# Altium schematic symbol library hi3516dv100.SchLib: 70 symbols
Pins are listed as number, name and electrical type; pins without a type are passive.

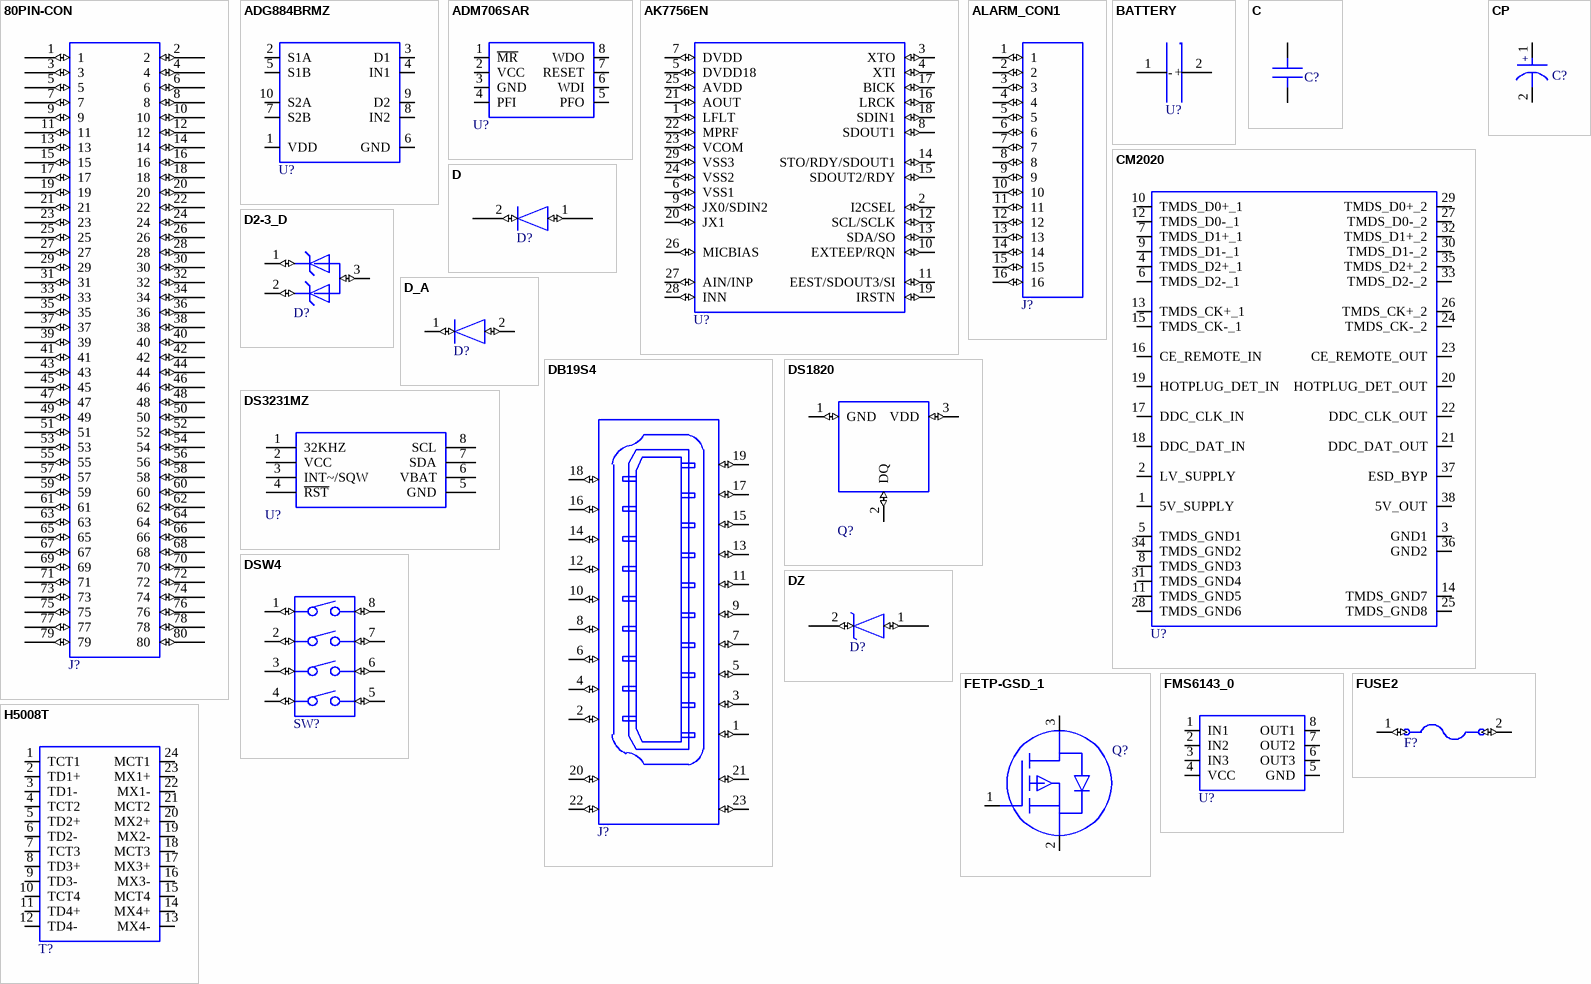
[diagram p0: symbols 80PIN-CON to H5008T]

## 80PIN-CON
designator J?  (value not drawn)
PARTS: 1; OriginalSymbolOrigin: (30,420); LEVEL: STD; DEVICE: 80PIN-CON
pins: 1 (io), 2 (io), 3 (io), 4 (io), 5 (io), 6 (io), 7 (io), 8 (io), 9 (io), 10 (io), 11 (io), 12 (io), 13 (io), 14 (io), 15 (io), 16 (io), 17 (io), 18 (io), 19 (io), 20 (io), 21 (io), 22 (io), 23 (io), 24 (io), 25 (io), 26 (io), 27 (io), 28 (io), 29 (io), 30 (io), 31 (io), 32 (io), 33 (io), 34 (io), 35 (io), 36 (io), 37 (io), 38 (io), 39 (io), 40 (io), 41 (io), 42 (io), 43 (io), 44 (io), 45 (io), 46 (io), 47 (io), 48 (io), 49 (io), 50 (io), 51 (io), 52 (io), 53 (io), 54 (io), 55 (io), 56 (io), 57 (io), 58 (io), 59 (io), 60 (io), 61 (io), 62 (io), 63 (io), 64 (io), 65 (io), 66 (io), 67 (io), 68 (io), 69 (io), 70 (io), 71 (io), 72 (io), 73 (io), 74 (io), 75 (io), 76 (io), 77 (io), 78 (io), 79 (io), 80 (io)

## ADG884BRMZ
designator U?  (value not drawn)
PARTS: 1; OriginalSymbolOrigin: (20,90); LEVEL: STD; DEVICE: ADG884BRMZ
pins: 1 VDD, 2 S1A, 3 D1, 4 IN1, 5 S1B, 6 GND, 7 S2B, 8 IN2, 9 D2, 10 S2A

## ADM706SAR
designator U?  (value not drawn)
PARTS: 1; OriginalSymbolOrigin: (10,50); LEVEL: STD; DEVICE: ADM706SAR
pins: 1 ~{MR}, 2 VCC, 3 GND, 4 PFI, 5 PFO, 6 WDI, 7 RESET, 8 WDO

## AK7756EN
designator U?  (value not drawn)
PARTS: 1; OriginalSymbolOrigin: (20,190); LEVEL: STD; DEVICE: AK7756EN
pins: 1 LFLT (io), 2 I2CSEL (io), 3 XTO (io), 4 XTI (io), 5 DVDD18 (io), 6 VSS1 (io), 7 DVDD (io), 8 SDOUT1 (io), 9 JX0/SDIN2 (io), 10 EXTEEP/RQN (io), 11 EEST/SDOUT3/SI (io), 12 SCL/SCLK (io), 13 SDA/SO (io), 14 STO/RDY/SDOUT1 (io), 15 SDOUT2/RDY (io), 16 LRCK (io), 17 BICK (io), 18 SDIN1 (io), 19 IRSTN (io), 20 JX1 (io), 21 AOUT (io), 22 MPRF (io), 23 VCOM (io), 24 VSS2 (io), 25 AVDD (io), 26 MICBIAS (io), 27 AIN/INP (io), 28 INN (io), 29 VSS3 (io)

## ALARM_CON1
designator J?  (value not drawn)
PARTS: 1; OriginalSymbolOrigin: (20,180); LEVEL: STD; DEVICE: CON; PKG_TYPE: HD16-2_54MM-S
pins: 1 (io), 2 (io), 3 (io), 4 (io), 5 (io), 6 (io), 7 (io), 8 (io), 9 (io), 10 (io), 11 (io), 12 (io), 13 (io), 14 (io), 15 (io), 16 (io)

## BATTERY
designator U?  (value not drawn)
PARTS: 1; OriginalSymbolOrigin: (20,40); PKG_TYPE: BATTERY-R; LEVEL: STD; DEVICE: BATTERY
pins: 1 +, 2 -

## C
designator C?, comment 1U  (value not drawn)
PARTS: 1; OriginalSymbolOrigin: (0,30); DEVICE: CP; PKG_TYPE: CAP2-100-250; LEVEL: STD; PINSWAP: (A,B)
pins: 1 A, 2 B

## CM2020
designator U?  (value not drawn)
PARTS: 1; OriginalSymbolOrigin: (20,300); LEVEL: STD; DEVICE: CM2020
pins: 1 5V_SUPPLY, 2 LV_SUPPLY, 3 GND1, 4 TMDS_D2+_1, 5 TMDS_GND1, 6 TMDS_D2-_1, 7 TMDS_D1+_1, 8 TMDS_GND3, 9 TMDS_D1-_1, 10 TMDS_D0+_1, 11 TMDS_GND5, 12 TMDS_D0-_1, 13 TMDS_CK+_1, 14 TMDS_GND7, 15 TMDS_CK-_1, 16 CE_REMOTE_IN, 17 DDC_CLK_IN, 18 DDC_DAT_IN, 19 HOTPLUG_DET_IN, 20 HOTPLUG_DET_OUT, 21 DDC_DAT_OUT, 22 DDC_CLK_OUT, 23 CE_REMOTE_OUT, 24 TMDS_CK-_2, 25 TMDS_GND8, 26 TMDS_CK+_2, 27 TMDS_D0-_2, 28 TMDS_GND6, 29 TMDS_D0+_2, 30 TMDS_D1-_2, 31 TMDS_GND4, 32 TMDS_D1+_2, 33 TMDS_D2-_2, 34 TMDS_GND2, 35 TMDS_D2+_2, 36 GND2, 37 ESD_BYP, 38 5V_OUT

## CP
designator C?, comment 1U  (value not drawn)
PARTS: 1; OriginalSymbolOrigin: (0,30); DEVICE: CP; PKG_TYPE: CAP2-100-250; LEVEL: STD
pins: 1, 2
text: +

## D
designator D?  (value not drawn)
PARTS: 1; OriginalSymbolOrigin: (30,20); PKG_TYPE: 2; LEVEL: STD; DEVICE: D
pins: 1 A (io), 2 B (io)

## D2-3_D
designator D?  (value not drawn)
PARTS: 1; OriginalSymbolOrigin: (20,40); CODE: 136011; PKG_TYPE: 3; LEVEL: STD; DEVICE: MMBZ5V6ALT1-D
pins: 1 C1 (io), 2 C2 (io), 3 A (io)

## D_A
designator D?  (value not drawn)
PARTS: 1; OriginalSymbolOrigin: (20,20); LEVEL: STD; DEVICE: 1PS79SB31; CODE: ?; PKG_TYPE: ?
pins: 1 K (io), 2 A (io)

## DB19S4
designator J?  (value not drawn)
PARTS: 1; OriginalSymbolOrigin: (20,280); CODE: 168084; PKG_TYPE: 23; LEVEL: STD; DEVICE: 1734011-1
pins: 1 P1 (io), 2 P2 (io), 3 P3 (io), 4 P4 (io), 5 P5 (io), 6 P6 (io), 7 P7 (io), 8 P8 (io), 9 P9 (io), 10 P10 (io), 11 P11 (io), 12 P12 (io), 13 P13 (io), 14 P14 (io), 15 P15 (io), 16 P16 (io), 17 P17 (io), 18 P18 (io), 19 P19 (io), 20 S20 (io), 21 S21 (io), 22 S22 (io), 23 S23 (io)

## DS1820
designator Q?  (value not drawn)
PARTS: 1; OriginalSymbolOrigin: (20,80); CODE: 33010116; PKG_TYPE: TO-TR; LEVEL: STD; DEVICE: DS1820
pins: 1 GND (io), 2 DQ (io), 3 VDD (io)

## DS3231MZ
designator U?  (value not drawn)
PARTS: 1; OriginalSymbolOrigin: (10,60); LEVEL: STD; DEVICE: DS3231MZ
pins: 1 32KHZ, 2 VCC, 3 INT~/SQW, 4 ~{RST}, 5 GND, 6 VBAT, 7 SDA, 8 SCL

## DSW4
designator SW?  (value not drawn)
PARTS: 1; OriginalSymbolOrigin: (20,100); CODE: 16070017; PKG_TYPE: SDSW8-L; LEVEL: STD; DEVICE: GSW3
pins: 1 (io), 2 (io), 3 (io), 4 (io), 5 (io), 6 (io), 7 (io), 8 (io)

## DZ
designator D?  (value not drawn)
PARTS: 1; OriginalSymbolOrigin: (30,20); PKG_TYPE: 2; LEVEL: STD; DEVICE: DZ
pins: 1 A (io), 2 B (io)

## FETP-GSD_1
designator Q?, comment PMOS-GSD  (value not drawn)
PARTS: 1; OriginalSymbolOrigin: (10,80); LEVEL: STD; PKG_TYPE: SOT23; DEVICE: REF
pins: 1 G, 2 S, 3 D

## FMS6143_0
designator U?, comment FMS6143  (value not drawn)
PARTS: 1; OriginalSymbolOrigin: (20,60); CODE: 229563; PKG_TYPE: 8; LEVEL: STD; DEVICE: FMS6143
pins: 1 IN1, 2 IN2, 3 IN3, 4 VCC, 5 GND, 6 OUT3, 7 OUT2, 8 OUT1

## FUSE2
designator F?  (value not drawn)
PARTS: 1; OriginalSymbolOrigin: (20,20); LEVEL: STD; DEVICE: FUSE; CODE: ?; PKG_TYPE: ?
pins: 1 P1 (io), 2 P2 (io)

## H5008T
designator T?  (value not drawn)
PARTS: 1; OriginalSymbolOrigin: (20,130); CODE: 9050140; PKG_TYPE: STFM24-50-480; LEVEL: STD; DEVICE: H5008T
pins: 1 TCT1, 2 TD1+, 3 TD1-, 4 TCT2, 5 TD2+, 6 TD2-, 7 TCT3, 8 TD3+, 9 TD3-, 10 TCT4, 11 TD4+, 12 TD4-, 13 MX4-, 14 MX4+, 15 MCT4, 16 MX3-, 17 MX3+, 18 MCT3, 19 MX2-, 20 MX2+, 21 MCT2, 22 MX1-, 23 MX1+, 24 MCT1

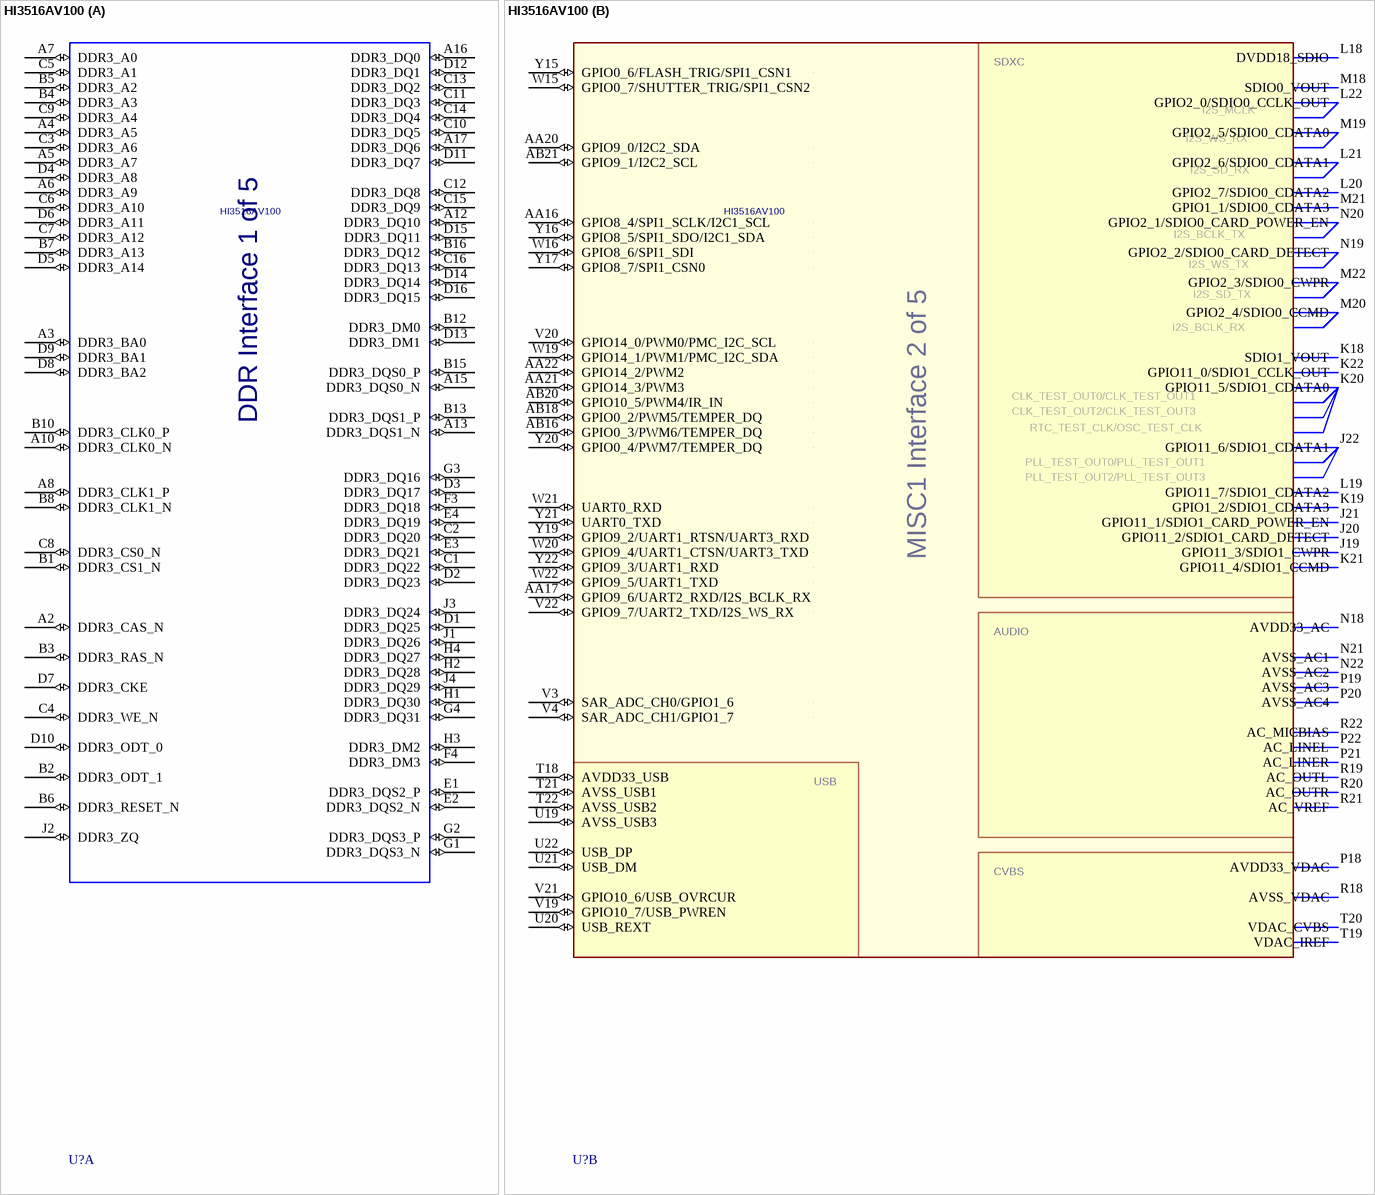
[diagram p1: symbol HI3516AV100]

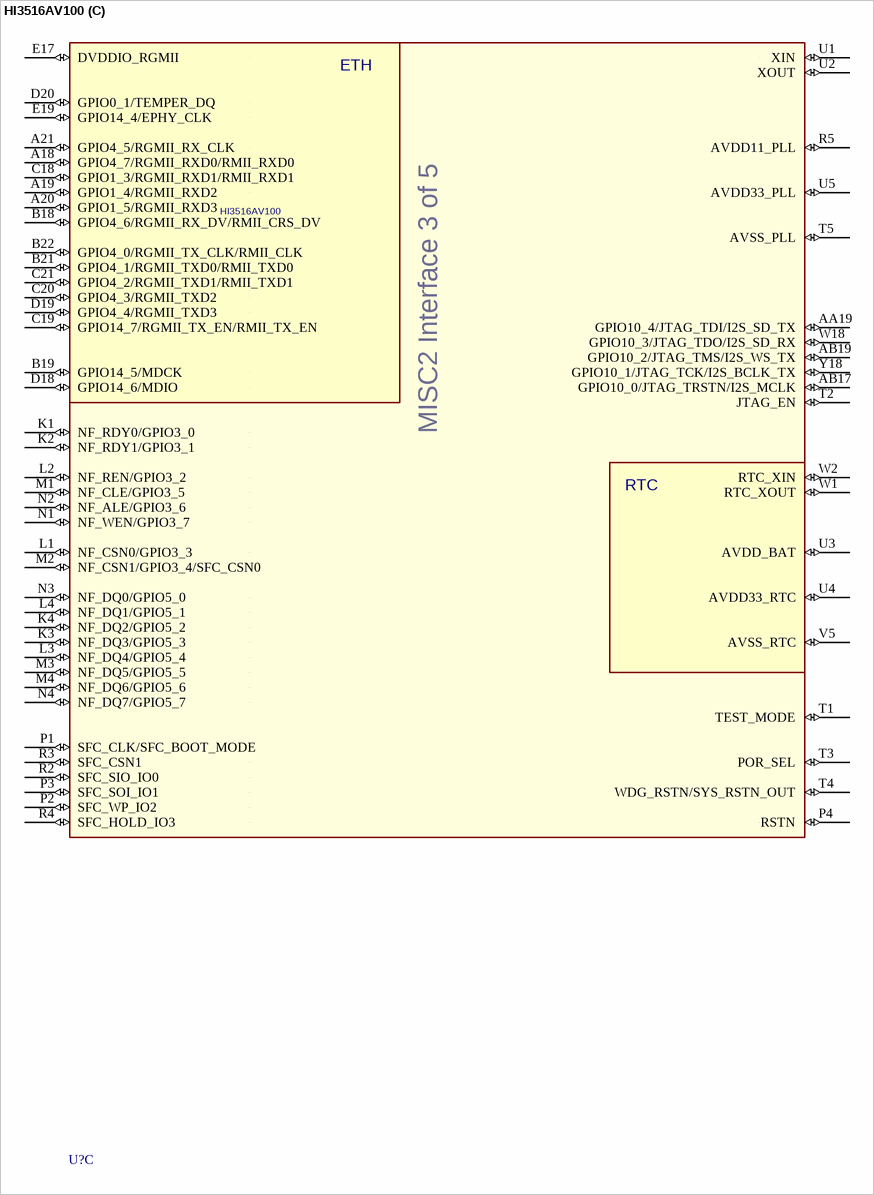
[diagram p2: symbol HI3516AV100]

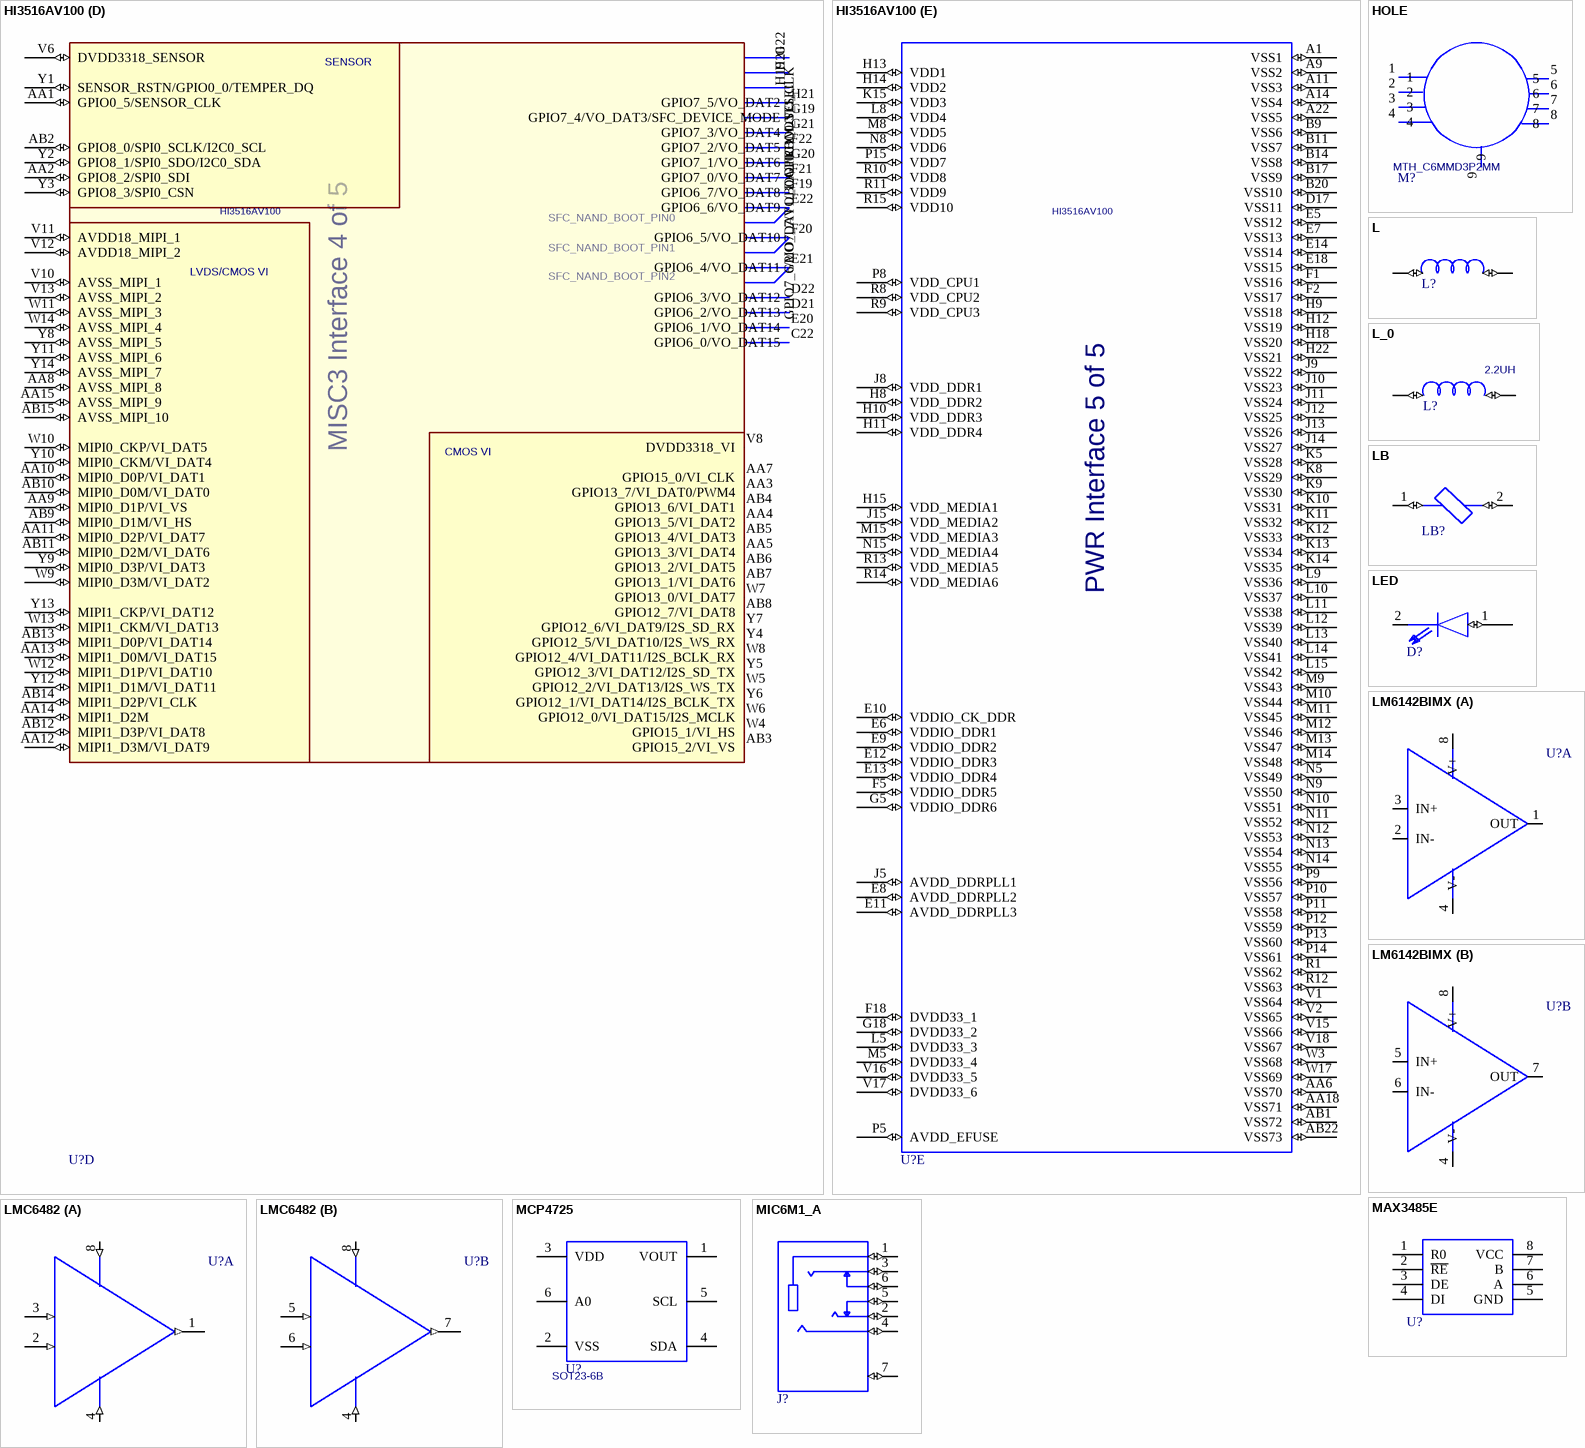
[diagram p3: symbols HI3516AV100 to MIC6M1_A]

## HI3516AV100
designator U?
FORWARD_PCB: 1; HETERO: (HI3516AV100_DDR),(HI3516AV100_M1),(HI3516AV100_M2),(HI3516AV100_M3),(HI3516AV100_PWR); PKG_TYPE: BGA_HI3516A; LEVEL: STD; OriginalSymbolOrigin: (30,750); PARTS: 1; DEVICE: HI3516AV100
footprint BGA395-26-2222
part A pins: A2 DDR3_CAS_N (io), A3 DDR3_BA0 (io), A4 DDR3_A5 (io), A5 DDR3_A7 (io), A6 DDR3_A9 (io), A7 DDR3_A0 (io), A8 DDR3_CLK1_P (io), A10 DDR3_CLK0_N (io), A12 DDR3_DQ10 (io), A13 DDR3_DQS1_N (io), A15 DDR3_DQS0_N (io), A16 DDR3_DQ0 (io), A17 DDR3_DQ6 (io), B1 DDR3_CS1_N (io), B2 DDR3_ODT_1 (io), B3 DDR3_RAS_N (io), B4 DDR3_A3 (io), B5 DDR3_A2 (io), B6 DDR3_RESET_N (io), B7 DDR3_A13 (io), B8 DDR3_CLK1_N (io), B10 DDR3_CLK0_P (io), B12 DDR3_DM0 (io), B13 DDR3_DQS1_P (io), B15 DDR3_DQS0_P (io), B16 DDR3_DQ12 (io), C1 DDR3_DQ22 (io), C2 DDR3_DQ20 (io), C3 DDR3_A6 (io), C4 DDR3_WE_N (io), C5 DDR3_A1 (io), C6 DDR3_A10 (io), C7 DDR3_A12 (io), C8 DDR3_CS0_N (io), C9 DDR3_A4 (io), C10 DDR3_DQ5 (io), C11 DDR3_DQ3 (io), C12 DDR3_DQ8 (io), C13 DDR3_DQ2 (io), C14 DDR3_DQ4 (io), C15 DDR3_DQ9 (io), C16 DDR3_DQ13 (io), D1 DDR3_DQ25 (io), D2 DDR3_DQ23 (io), D3 DDR3_DQ17 (io), D4 DDR3_A8 (io), D5 DDR3_A14 (io), D6 DDR3_A11 (io), D7 DDR3_CKE (io), D8 DDR3_BA2 (io), D9 DDR3_BA1 (io), D10 DDR3_ODT_0 (io), D11 DDR3_DQ7 (io), D12 DDR3_DQ1 (io), D13 DDR3_DM1 (io), D14 DDR3_DQ14 (io), D15 DDR3_DQ11 (io), D16 DDR3_DQ15 (io), E1 DDR3_DQS2_P (io), E2 DDR3_DQS2_N (io), E3 DDR3_DQ21 (io), E4 DDR3_DQ19 (io), F3 DDR3_DQ18 (io), F4 DDR3_DM3 (io), G1 DDR3_DQS3_N (io), G2 DDR3_DQS3_P (io), G3 DDR3_DQ16 (io), G4 DDR3_DQ31 (io), H1 DDR3_DQ30 (io), H2 DDR3_DQ28 (io), H3 DDR3_DM2 (io), H4 DDR3_DQ27 (io), J1 DDR3_DQ26 (io), J2 DDR3_ZQ (io), J3 DDR3_DQ24 (io), J4 DDR3_DQ29 (io)
part B pins: AA16 GPIO8_4/SPI1_SCLK/I2C1_SCL (io), AA17 GPIO9_6/UART2_RXD/I2S_BCLK_RX (io), AA20 GPIO9_0/I2C2_SDA (io), AA21 GPIO14_3/PWM3 (io), AA22 GPIO14_2/PWM2 (io), AB16 GPIO0_3/PWM6/TEMPER_DQ (io), AB18 GPIO0_2/PWM5/TEMPER_DQ (io), AB20 GPIO10_5/PWM4/IR_IN (io), AB21 GPIO9_1/I2C2_SCL (io), J19 GPIO11_3/SDIO1_CWPR (io), J20 GPIO11_2/SDIO1_CARD_DETECT (io), J21 GPIO11_1/SDIO1_CARD_POWER_EN (io), J22 GPIO11_6/SDIO1_CDATA1 (io), K18 SDIO1_VOUT (io), K19 GPIO1_2/SDIO1_CDATA3 (io), K20 GPIO11_5/SDIO1_CDATA0 (io), K21 GPIO11_4/SDIO1_CCMD (io), K22 GPIO11_0/SDIO1_CCLK_OUT (io), L18 DVDD18_SDIO (io), L19 GPIO11_7/SDIO1_CDATA2 (io), L20 GPIO2_7/SDIO0_CDATA2 (io), L21 GPIO2_6/SDIO0_CDATA1 (io), L22 GPIO2_0/SDIO0_CCLK_OUT (io), M18 SDIO0_VOUT (io), M19 GPIO2_5/SDIO0_CDATA0 (io), M20 GPIO2_4/SDIO0_CCMD (io), M21 GPIO1_1/SDIO0_CDATA3 (io), M22 GPIO2_3/SDIO0_CWPR (io), N18 AVDD33_AC (io), N19 GPIO2_2/SDIO0_CARD_DETECT (io), N20 GPIO2_1/SDIO0_CARD_POWER_EN (io), N21 AVSS_AC1 (io), N22 AVSS_AC2 (io), P18 AVDD33_VDAC (io), P19 AVSS_AC3 (io), P20 AVSS_AC4 (io), P21 AC_LINER (io), P22 AC_LINEL (io), R18 AVSS_VDAC (io), R19 AC_OUTL (io), R20 AC_OUTR (io), R21 AC_VREF (io), R22 AC_MICBIAS (io), T18 AVDD33_USB (io), T19 VDAC_IREF (io), T20 VDAC_CVBS (io), T21 AVSS_USB1 (io), T22 AVSS_USB2 (io), U19 AVSS_USB3 (io), U20 USB_REXT (io), U21 USB_DM (io), U22 USB_DP (io), V3 SAR_ADC_CH0/GPIO1_6 (io), V4 SAR_ADC_CH1/GPIO1_7 (io), V19 GPIO10_7/USB_PWREN (io), V20 GPIO14_0/PWM0/PMC_I2C_SCL (io), V21 GPIO10_6/USB_OVRCUR (io), V22 GPIO9_7/UART2_TXD/I2S_WS_RX (io), W15 GPIO0_7/SHUTTER_TRIG/SPI1_CSN2 (io), W16 GPIO8_6/SPI1_SDI (io), W19 GPIO14_1/PWM1/PMC_I2C_SDA (io), W20 GPIO9_4/UART1_CTSN/UART3_TXD (io), W21 UART0_RXD (io), W22 GPIO9_5/UART1_TXD (io), Y15 GPIO0_6/FLASH_TRIG/SPI1_CSN1 (io), Y16 GPIO8_5/SPI1_SDO/I2C1_SDA (io), Y17 GPIO8_7/SPI1_CSN0 (io), Y19 GPIO9_2/UART1_RTSN/UART3_RXD (io), Y20 GPIO0_4/PWM7/TEMPER_DQ (io), Y21 UART0_TXD (io), Y22 GPIO9_3/UART1_RXD (io)
part C pins: A18 GPIO4_7/RGMII_RXD0/RMII_RXD0 (io), A19 GPIO1_4/RGMII_RXD2 (io), A20 GPIO1_5/RGMII_RXD3 (io), A21 GPIO4_5/RGMII_RX_CLK (io), AA19 GPIO10_4/JTAG_TDI/I2S_SD_TX (io), AB17 GPIO10_0/JTAG_TRSTN/I2S_MCLK (io), AB19 GPIO10_2/JTAG_TMS/I2S_WS_TX (io), B18 GPIO4_6/RGMII_RX_DV/RMII_CRS_DV (io), B19 GPIO14_5/MDCK (io), B21 GPIO4_1/RGMII_TXD0/RMII_TXD0 (io), B22 GPIO4_0/RGMII_TX_CLK/RMII_CLK (io), C18 GPIO1_3/RGMII_RXD1/RMII_RXD1 (io), C19 GPIO14_7/RGMII_TX_EN/RMII_TX_EN (io), C20 GPIO4_3/RGMII_TXD2 (io), C21 GPIO4_2/RGMII_TXD1/RMII_TXD1 (io), D18 GPIO14_6/MDIO (io), D19 GPIO4_4/RGMII_TXD3 (io), D20 GPIO0_1/TEMPER_DQ (io), E17 DVDDIO_RGMII (io), E19 GPIO14_4/EPHY_CLK (io), K1 NF_RDY0/GPIO3_0 (io), K2 NF_RDY1/GPIO3_1 (io), K3 NF_DQ3/GPIO5_3 (io), K4 NF_DQ2/GPIO5_2 (io), L1 NF_CSN0/GPIO3_3 (io), L2 NF_REN/GPIO3_2 (io), L3 NF_DQ4/GPIO5_4 (io), L4 NF_DQ1/GPIO5_1 (io), M1 NF_CLE/GPIO3_5 (io), M2 NF_CSN1/GPIO3_4/SFC_CSN0 (io), M3 NF_DQ5/GPIO5_5 (io), M4 NF_DQ6/GPIO5_6 (io), N1 NF_WEN/GPIO3_7 (io), N2 NF_ALE/GPIO3_6 (io), N3 NF_DQ0/GPIO5_0 (io), N4 NF_DQ7/GPIO5_7 (io), P1 SFC_CLK/SFC_BOOT_MODE (io), P2 SFC_WP_IO2 (io), P3 SFC_SOI_IO1 (io), P4 RSTN (io), R2 SFC_SIO_IO0 (io), R3 SFC_CSN1 (io), R4 SFC_HOLD_IO3 (io), R5 AVDD11_PLL (io), T1 TEST_MODE (io), T2 JTAG_EN (io), T3 POR_SEL (io), T4 WDG_RSTN/SYS_RSTN_OUT (io), T5 AVSS_PLL (io), U1 XIN (io), U2 XOUT (io), U3 AVDD_BAT (io), U4 AVDD33_RTC (io), U5 AVDD33_PLL (io), V5 AVSS_RTC (io), W1 RTC_XOUT (io), W2 RTC_XIN (io), W18 GPIO10_3/JTAG_TDO/I2S_SD_RX (io), Y18 GPIO10_1/JTAG_TCK/I2S_BCLK_TX (io)
part D pins: AA1 GPIO0_5/SENSOR_CLK (io), AA2 GPIO8_2/SPI0_SDI (io), AA3 GPIO13_7/VI_DAT0/PWM4 (io), AA4 GPIO13_5/VI_DAT2 (io), AA5 GPIO13_3/VI_DAT4 (io), AA7 GPIO15_0/VI_CLK (io), AA8 AVSS_MIPI_8 (io), AA9 MIPI0_D1P/VI_VS (io), AA10 MIPI0_D0P/VI_DAT1 (io), AA11 MIPI0_D2P/VI_DAT7 (io), AA12 MIPI1_D3M/VI_DAT9 (io), AA13 MIPI1_D0M/VI_DAT15 (io), AA14 MIPI1_D2M (io), AA15 AVSS_MIPI_9 (io), AB2 GPIO8_0/SPI0_SCLK/I2C0_SCL (io), AB3 GPIO15_2/VI_VS (io), AB4 GPIO13_6/VI_DAT1 (io), AB5 GPIO13_4/VI_DAT3 (io), AB6 GPIO13_2/VI_DAT5 (io), AB7 GPIO13_1/VI_DAT6 (io), AB8 GPIO12_7/VI_DAT8 (io), AB9 MIPI0_D1M/VI_HS (io), AB10 MIPI0_D0M/VI_DAT0 (io), AB11 MIPI0_D2M/VI_DAT6 (io), AB12 MIPI1_D3P/VI_DAT8 (io), AB13 MIPI1_D0P/VI_DAT14 (io), AB14 MIPI1_D2P/VI_CLK (io), AB15 AVSS_MIPI_10 (io), C22 GPIO6_0/VO_DAT15 (io), D21 GPIO6_2/VO_DAT13 (io), D22 GPIO6_3/VO_DAT12 (io), E20 GPIO6_1/VO_DAT14 (io), E21 GPIO6_4/VO_DAT11 (io), E22 GPIO6_6/VO_DAT9 (io), F19 GPIO6_7/VO_DAT8 (io), F20 GPIO6_5/VO_DAT10 (io), F21 GPIO7_0/VO_DAT7 (io), F22 GPIO7_2/VO_DAT5 (io), G19 GPIO7_4/VO_DAT3/SFC_DEVICE_MODE (io), G20 GPIO7_1/VO_DAT6 (io), G21 GPIO7_3/VO_DAT4 (io), G22 GPIO1_0/VO_CLK (io), H19 GPIO7_6/VO_DAT1/BOOTROM_SEL (io), H20 GPIO7_7/VO_DAT0/BOOT_SEL (io), H21 GPIO7_5/VO_DAT2 (io), V6 DVDD3318_SENSOR (io), V8 DVDD3318_VI (io), V10 AVSS_MIPI_1 (io), V11 AVDD18_MIPI_1 (io), V12 AVDD18_MIPI_2 (io), V13 AVSS_MIPI_2 (io), W4 GPIO15_1/VI_HS (io), W5 GPIO12_2/VI_DAT13/I2S_WS_TX (io), W6 GPIO12_0/VI_DAT15/I2S_MCLK (io), W7 GPIO13_0/VI_DAT7 (io), W8 GPIO12_4/VI_DAT11/I2S_BCLK_RX (io), W9 MIPI0_D3M/VI_DAT2 (io), W10 MIPI0_CKP/VI_DAT5 (io), W11 AVSS_MIPI_3 (io), W12 MIPI1_D1P/VI_DAT10 (io), W13 MIPI1_CKM/VI_DAT13 (io), W14 AVSS_MIPI_4 (io), Y1 SENSOR_RSTN/GPIO0_0/TEMPER_DQ (io), Y2 GPIO8_1/SPI0_SDO/I2C0_SDA (io), Y3 GPIO8_3/SPI0_CSN (io), Y4 GPIO12_5/VI_DAT10/I2S_WS_RX (io), Y5 GPIO12_3/VI_DAT12/I2S_SD_TX (io), Y6 GPIO12_1/VI_DAT14/I2S_BCLK_TX (io), Y7 GPIO12_6/VI_DAT9/I2S_SD_RX (io), Y8 AVSS_MIPI_5 (io), Y9 MIPI0_D3P/VI_DAT3 (io), Y10 MIPI0_CKM/VI_DAT4 (io), Y11 AVSS_MIPI_6 (io), Y12 MIPI1_D1M/VI_DAT11 (io), Y13 MIPI1_CKP/VI_DAT12 (io), Y14 AVSS_MIPI_7 (io)
part E pins: A1 VSS1 (io), A9 VSS2 (io), A11 VSS3 (io), A14 VSS4 (io), A22 VSS5 (io), AA6 VSS70 (io), AA18 VSS71 (io), AB1 VSS72 (io), AB22 VSS73 (io), B9 VSS6 (io), B11 VSS7 (io), B14 VSS8 (io), B17 VSS9 (io), B20 VSS10 (io), D17 VSS11 (io), E5 VSS12 (io), E6 VDDIO_DDR1 (io), E7 VSS13 (io), E8 AVDD_DDRPLL2 (io), E9 VDDIO_DDR2 (io), E10 VDDIO_CK_DDR (io), E11 AVDD_DDRPLL3 (io), E12 VDDIO_DDR3 (io), E13 VDDIO_DDR4 (io), E14 VSS14 (io), E18 VSS15 (io), F1 VSS16 (io), F2 VSS17 (io), F5 VDDIO_DDR5 (io), F18 DVDD33_1 (io), G5 VDDIO_DDR6 (io), G18 DVDD33_2 (io), H8 VDD_DDR2 (io), H9 VSS18 (io), H10 VDD_DDR3 (io), H11 VDD_DDR4 (io), H12 VSS19 (io), H13 VDD1 (io), H14 VDD2 (io), H15 VDD_MEDIA1 (io), H18 VSS20 (io), H22 VSS21 (io), J5 AVDD_DDRPLL1 (io), J8 VDD_DDR1 (io), J9 VSS22 (io), J10 VSS23 (io), J11 VSS24 (io), J12 VSS25 (io), J13 VSS26 (io), J14 VSS27 (io), J15 VDD_MEDIA2 (io), K5 VSS28 (io), K8 VSS29 (io), K9 VSS30 (io), K10 VSS31 (io), K11 VSS32 (io), K12 VSS33 (io), K13 VSS34 (io), K14 VSS35 (io), K15 VDD3 (io), L5 DVDD33_3 (io), L8 VDD4 (io), L9 VSS36 (io), L10 VSS37 (io), L11 VSS38 (io), L12 VSS39 (io), L13 VSS40 (io), L14 VSS41 (io), L15 VSS42 (io), M5 DVDD33_4 (io), M8 VDD5 (io), M9 VSS43 (io), M10 VSS44 (io), M11 VSS45 (io), M12 VSS46 (io), M13 VSS47 (io), M14 VSS48 (io), M15 VDD_MEDIA3 (io), N5 VSS49 (io), N8 VDD6 (io), N9 VSS50 (io), N10 VSS51 (io), N11 VSS52 (io), N12 VSS53 (io), N13 VSS54 (io), N14 VSS55 (io), N15 VDD_MEDIA4 (io), P5 AVDD_EFUSE (io), P8 VDD_CPU1 (io), P9 VSS56 (io), P10 VSS57 (io), P11 VSS58 (io), P12 VSS59 (io), P13 VSS60 (io), P14 VSS61 (io), P15 VDD7 (io), R1 VSS62 (io), R8 VDD_CPU2 (io), R9 VDD_CPU3 (io), R10 VDD8 (io), R11 VDD9 (io), R12 VSS63 (io), R13 VDD_MEDIA5 (io), R14 VDD_MEDIA6 (io), R15 VDD10 (io), V1 VSS64 (io), V2 VSS65 (io), V15 VSS66 (io), V16 DVDD33_5 (io), V17 DVDD33_6 (io), V18 VSS67 (io), W3 VSS68 (io), W17 VSS69 (io)
part A text: DDR Interface 1 of 5
part B text: SDXC; I2S_MCLK; I2S_WS_RX; I2S_SD_RX; I2S_BCLK_TX; I2S_WS_TX; I2S_SD_TX; I2S_BCLK_RX; CLK_TEST_OUT0/CLK_TEST_OUT1; CLK_TEST_OUT2/CLK_TEST_OUT3; RTC_TEST_CLK/OSC_TEST_CLK; PLL_TEST_OUT0/PLL_TEST_OUT1; PLL_TEST_OUT2/PLL_TEST_OUT3; MISC1 Interface 2 of 5; AUDIO; USB; CVBS
part C text: ETH; MISC2 Interface 3 of 5; RTC
part D text: SENSOR; SFC_NAND_BOOT_PIN0; SFC_NAND_BOOT_PIN1; LVDS/CMOS VI; SFC_NAND_BOOT_PIN2; MISC3 Interface 4 of 5; CMOS VI
part E text: PWR Interface 5 of 5

## HOLE
designator M?  PKG_TYPE: MTH_C6MMD3P2MM  (hidden comment: HOLE)
PARTS: 1; OriginalSymbolOrigin: (0,89); LEVEL: STD; DEVICE: HOLE
pins: 1 (io), 2 (io), 3 (io), 4 (io), 5 (io), 6 (io), 7 (io), 8 (io), 9 (io)

## L
designator L?
PARTS: 1; OriginalSymbolOrigin: (20,20); PKG_TYPE: 2; LEVEL: STD; DEVICE: L
pins: 1 A (io), 2 B (io)

## L_0
designator L?, comment 2.2UH
PARTS: 1; OriginalSymbolOrigin: (20,20); PKG_TYPE: 2; LEVEL: STD; DEVICE: L
pins: 1 A (io), 2 B (io)

## LB
designator LB?  (value not drawn)
PARTS: 1; OriginalSymbolOrigin: (20,50); LEVEL: STD; DEVICE: LB
pins: 1 (io), 2 (io)

## LED
designator D?  (value not drawn)
PARTS: 1; OriginalSymbolOrigin: (10,20); PKG_TYPE: 2; LEVEL: STD; DEVICE: LED
pins: 1 A (io), 2 B (io)

## LM6142BIMX
designator U?  (value not drawn)
PARTS: 2; OriginalSymbolOrigin: (20,110); LEVEL: STD; DEVICE: LM6142BIMX
part A pins: 1 OUT, 2 IN-, 3 IN+, 4 V-, 8 V+
part B pins: 4 V-, 5 IN+, 6 IN-, 7 OUT, 8 V+

## LMC6482
designator U?  (value not drawn)
PARTS: 2; OriginalSymbolOrigin: (20,110); LEVEL: STD; DEVICE: LMC6482
part A pins: 1 OUT (out), 2 IN- (in), 3 IN+ (in), 4 V- (in), 8 V+ (in)
part B pins: 4 V- (in), 5 IN+ (in), 6 IN- (in), 7 OUT (out), 8 V+ (in)

## MAX3485E
designator U?  (value not drawn)
PARTS: 1; OriginalSymbolOrigin: (10,50); LEVEL: STD; DEVICE: ADM3485E
pins: 1 R0, 2 ~{RE}, 3 DE, 4 DI, 5 GND, 6 A, 7 B, 8 VCC

## MCP4725
designator U?  PKG_TYPE: SOT23-6B  (hidden comment: MCP4725)
PARTS: 1; OriginalSymbolOrigin: (10,90); LEVEL: STD; DEVICE: MCP4725
pins: 1 VOUT, 2 VSS, 3 VDD, 4 SDA, 5 SCL, 6 A0

## MIC6M1_A
designator J?  (value not drawn)
PARTS: 1; OriginalSymbolOrigin: (20,110); LEVEL: STD; DEVICE: JAM3335-F44-7F-W
pins: 1 P1 (io), 2 P2 (io), 3 P3 (io), 4 P4 (io), 5 P5 (io), 6 P6 (io), 7 M1 (io)

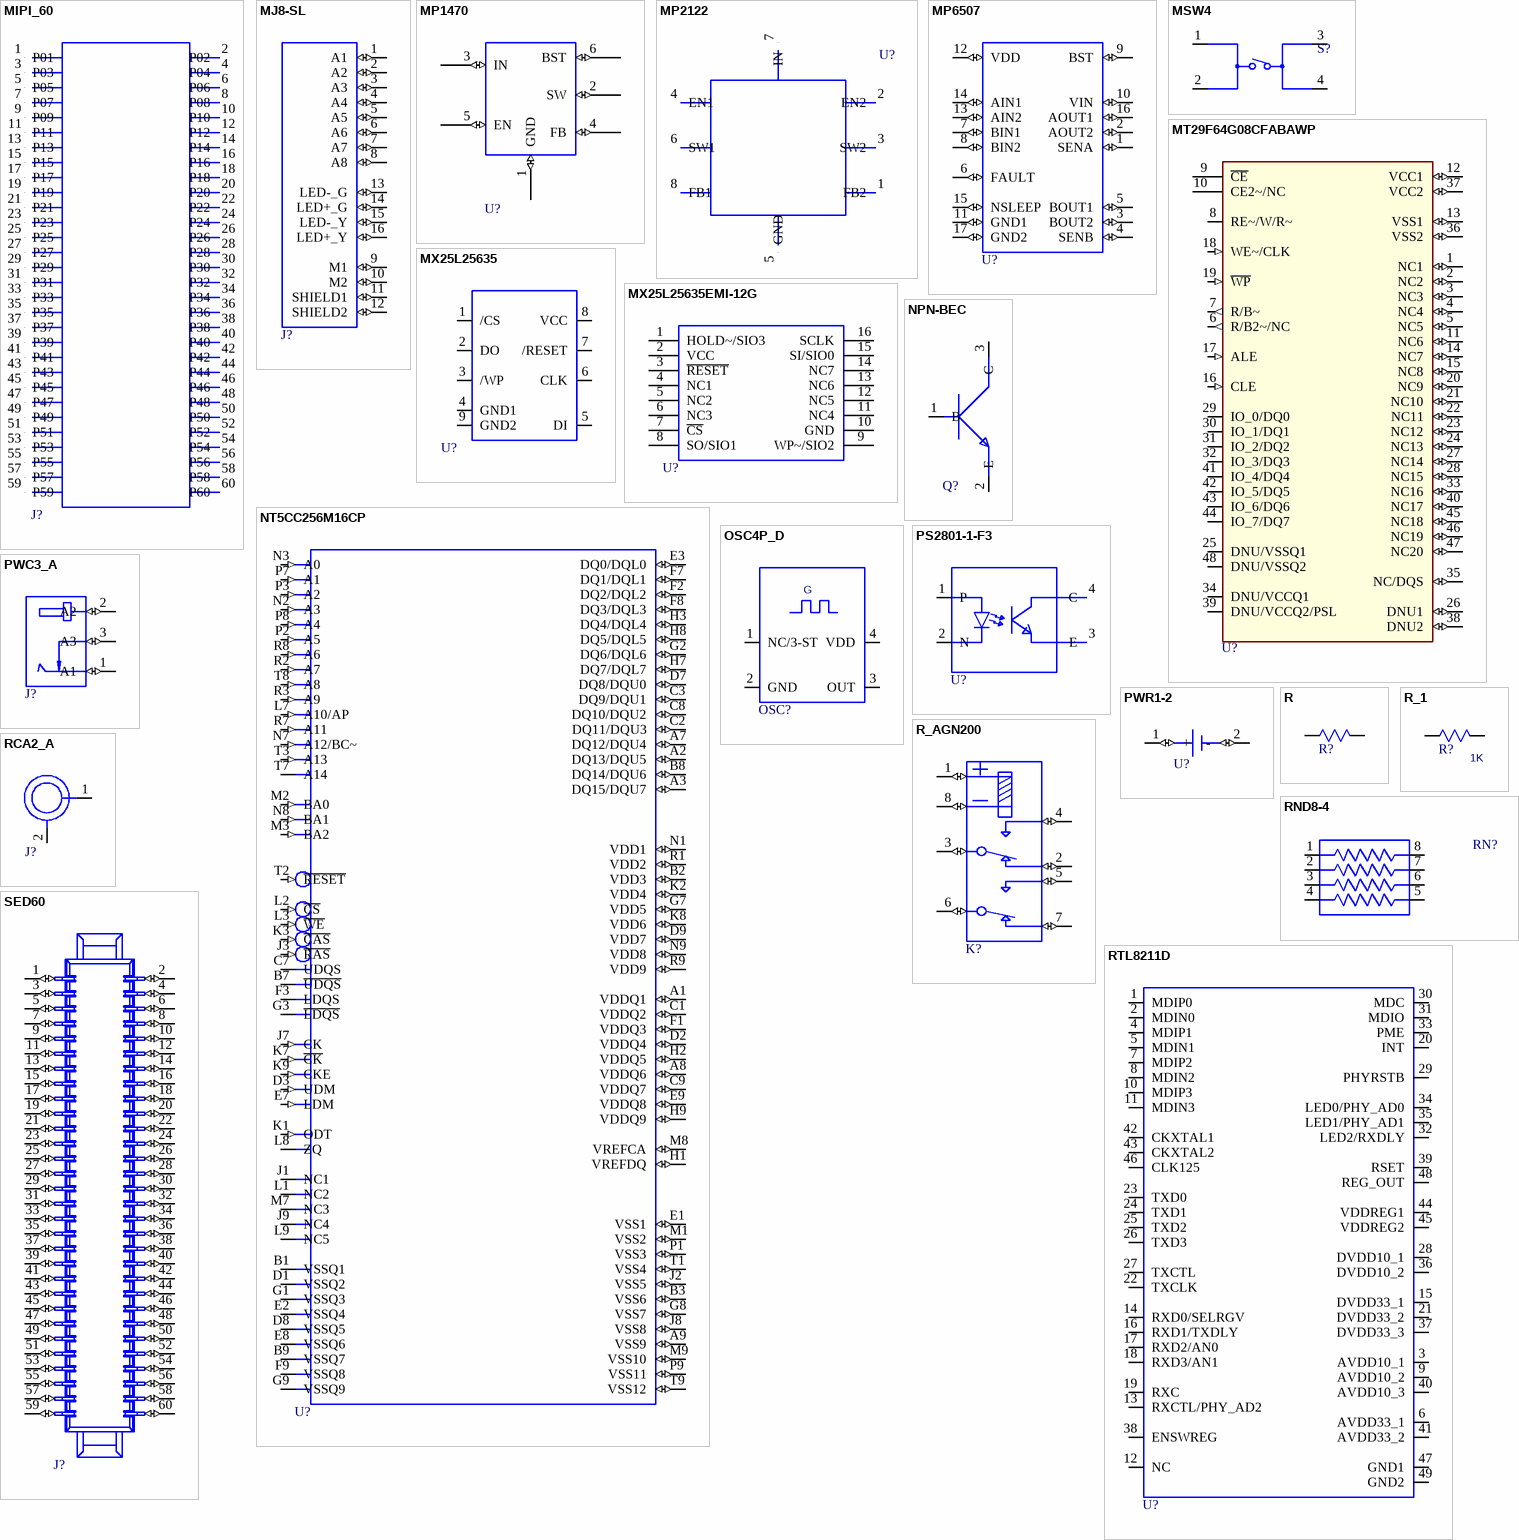
[diagram p4: symbols MIPI_60 to SED60]

## MIPI_60
designator J?, comment MIPI_60_CON  (value not drawn)
PARTS: 1; OriginalSymbolOrigin: (-5,320); LEVEL: STD; DEVICE: MIPI_60_CON
pins: 1 P01 (io), 2 P02 (io), 3 P03 (io), 4 P04 (io), 5 P05 (io), 6 P06 (io), 7 P07 (io), 8 P08 (io), 9 P09 (io), 10 P10 (io), 11 P11 (io), 12 P12 (io), 13 P13 (io), 14 P14 (io), 15 P15 (io), 16 P16 (io), 17 P17 (io), 18 P18 (io), 19 P19 (io), 20 P20 (io), 21 P21 (io), 22 P22 (io), 23 P23 (io), 24 P24 (io), 25 P25 (io), 26 P26 (io), 27 P27 (io), 28 P28 (io), 29 P29 (io), 30 P30 (io), 31 P31 (io), 32 P32 (io), 33 P33 (io), 34 P34 (io), 35 P35 (io), 36 P36 (io), 37 P37 (io), 38 P38 (io), 39 P39 (io), 40 P40 (io), 41 P41 (io), 42 P42 (io), 43 P43 (io), 44 P44 (io), 45 P45 (io), 46 P46 (io), 47 P47 (io), 48 P48 (io), 49 P49 (io), 50 P50 (io), 51 P51 (io), 52 P52 (io), 53 P53 (io), 54 P54 (io), 55 P55 (io), 56 P56 (io), 57 P57 (io), 58 P58 (io), 59 P59 (io), 60 P60 (io)

## MJ8-SL
designator J?  (value not drawn)
PARTS: 1; OriginalSymbolOrigin: (0,190); LEVEL: STD; DEVICE: MJ8_L
pins: 1 A1 (io), 2 A2 (io), 3 A3 (io), 4 A4 (io), 5 A5 (io), 6 A6 (io), 7 A7 (io), 8 A8 (io), 9 M1 (io), 10 M2 (io), 11 SHIELD1 (io), 12 SHIELD2 (io), 13 LED-_G (io), 14 LED+_G (io), 15 LED-_Y (io), 16 LED+_Y (io)

## MP1470
designator U?  (value not drawn)
PARTS: 1; OriginalSymbolOrigin: (0,95); LEVEL: STD; DEVICE: MP1470
pins: 1 GND (io), 2 SW (io), 3 IN (io), 4 FB (io), 5 EN (io), 6 BST (io)

## MP2122
designator U?  (value not drawn)
PARTS: 1; OriginalSymbolOrigin: (0,135); LEVEL: STD; DEVICE: MP2122
pins: 1 FB2 (io), 2 EN2 (io), 3 SW2 (io), 4 EN1 (io), 5 GND (io), 6 SW1 (io), 7 IN (io), 8 FB1 (io)

## MP6507
designator U?  (value not drawn)
PARTS: 1; OriginalSymbolOrigin: (20,150); LEVEL: STD; DEVICE: MP6507
pins: 1 SENA (io), 2 AOUT2 (io), 3 BOUT2 (io), 4 SENB (io), 5 BOUT1 (io), 6 FAULT (io), 7 BIN1 (io), 8 BIN2 (io), 9 BST (io), 10 VIN (io), 11 GND1 (io), 12 VDD (io), 13 AIN2 (io), 14 AIN1 (io), 15 NSLEEP (io), 16 AOUT1 (io), 17 GND2 (io)

## MSW4
designator S?  (value not drawn)
PARTS: 1; OriginalSymbolOrigin: (-10,40); CODE: 16100016; PKG_TYPE: SW4-PUSH; LEVEL: STD; DEVICE: TC-108
pins: 1, 2, 3, 4

## MT29F64G08CFABAWP
designator U?  (value not drawn)
PARTS: 1; OriginalSymbolOrigin: (10,330); LEVEL: STD; DEVICE: MT29F64G08CFABAWP; FORWARD_PCB: 1
pins: 1 NC1 (io), 2 NC2 (io), 3 NC3 (io), 4 NC4 (io), 5 NC5 (io), 6 R/B2~/NC (out), 7 R/B~ (out), 8 RE~/W/R~, 9 ~{CE}, 10 CE2~/NC, 11 NC6 (io), 12 VCC1 (io), 13 VSS1 (io), 14 NC7 (io), 15 NC8 (io), 16 CLE (in), 17 ALE (in), 18 WE~/CLK (in), 19 ~{WP} (in), 20 NC9 (io), 21 NC10 (io), 22 NC11 (io), 23 NC12 (io), 24 NC13 (io), 25 DNU/VSSQ1 (io), 26 DNU1 (io), 27 NC14 (io), 28 NC15 (io), 29 IO_0/DQ0 (io), 30 IO_1/DQ1 (io), 31 IO_2/DQ2 (io), 32 IO_3/DQ3 (io), 33 NC16 (io), 34 DNU/VCCQ1 (io), 35 NC/DQS (io), 36 VSS2 (io), 37 VCC2 (io), 38 DNU2 (io), 39 DNU/VCCQ2/PSL (io), 40 NC17 (io), 41 IO_4/DQ4 (io), 42 IO_5/DQ5 (io), 43 IO_6/DQ6 (io), 44 IO_7/DQ7 (io), 45 NC18 (io), 46 NC19 (io), 47 NC20 (io), 48 DNU/VSSQ2 (io)

## MX25L25635
designator U?  (value not drawn)
PARTS: 1; OriginalSymbolOrigin: (0,110); LEVEL: STD; PKG_TYPE: WSON8-MX25L12835ZN; DEVICE: MX25L25635
pins: 1 /CS, 2 DO, 3 /WP, 4 GND1, 5 DI, 6 CLK, 7 /RESET, 8 VCC, 9 GND2

## MX25L25635EMI-12G
designator U?  (value not drawn)
PARTS: 1; OriginalSymbolOrigin: (10,100); LEVEL: STD; DEVICE: MX25L25635EMI-12G
pins: 1 HOLD~/SIO3, 2 VCC, 3 ~{RESET}, 4 NC1, 5 NC2, 6 NC3, 7 ~{CS}, 8 SO/SIO1, 9 WP~/SIO2, 10 GND, 11 NC4, 12 NC5, 13 NC6, 14 NC7, 15 SI/SIO0, 16 SCLK

## NPN-BEC
designator Q?  (value not drawn)
PARTS: 1; OriginalSymbolOrigin: (20,90); CODE: 15050155; PKG_TYPE: A; LEVEL: STD; DEVICE: NPN-BEC
pins: 1 B, 2 E, 3 C

## NT5CC256M16CP
designator U?  (value not drawn)
PARTS: 1; OriginalSymbolOrigin: (10,580); LEVEL: STD; DEVICE: NT5CC256M16CP; FORWARD_PCB: 1
pins: A1 VDDQ1 (io), A2 DQ13/DQU5 (io), A3 DQ15/DQU7 (io), A7 DQ12/DQU4 (io), A8 VDDQ6 (io), A9 VSS9 (io), B1 VSSQ1 (io), B2 VDD3 (io), B3 VSS6 (io), B7 ~{UDQS} (io), B8 DQ14/DQU6 (io), B9 VSSQ7 (io), C1 VDDQ2 (io), C2 DQ11/DQU3 (io), C3 DQ9/DQU1 (io), C7 UDQS (io), C8 DQ10/DQU2 (io), C9 VDDQ7 (io), D1 VSSQ2 (io), D2 VDDQ4 (io), D3 UDM (in), D7 DQ8/DQU0 (io), D8 VSSQ5 (io), D9 VDD7 (io), E1 VSS1 (io), E2 VSSQ4 (io), E3 DQ0/DQL0 (io), E7 LDM (in), E8 VSSQ6 (io), E9 VDDQ8 (io), F1 VDDQ3 (io), F2 DQ2/DQL2 (io), F3 LDQS (io), F7 DQ1/DQL1 (io), F8 DQ3/DQL3 (io), F9 VSSQ8 (io), G1 VSSQ3 (io), G2 DQ6/DQL6 (io), G3 ~{LDQS} (io), G7 VDD5 (io), G8 VSS7 (io), G9 VSSQ9 (io), H1 VREFDQ (io), H2 VDDQ5 (io), H3 DQ4/DQL4 (io), H7 DQ7/DQL7 (io), H8 DQ5/DQL5 (io), H9 VDDQ9 (io), J1 NC1 (io), J2 VSS5 (io), J3 ~{RAS} (in), J7 CK (in), J8 VSS8 (io), J9 NC4 (io), K1 ODT (in), K2 VDD4 (io), K3 ~{CAS} (in), K7 ~{CK} (in), K8 VDD6 (io), K9 CKE (in), L1 NC2 (io), L2 ~{CS} (in), L3 ~{WE} (in), L7 A10/AP (in), L8 ZQ (io), L9 NC5 (io), M1 VSS2 (io), M2 BA0 (in), M3 BA2 (in), M7 NC3 (io), M8 VREFCA (io), M9 VSS10 (io), N1 VDD1 (io), N2 A3 (in), N3 A0 (in), N7 A12/BC~ (in), N8 BA1 (in), N9 VDD8 (io), P1 VSS3 (io), P2 A5 (in), P3 A2 (in), P7 A1 (in), P8 A4 (in), P9 VSS11 (io), R1 VDD2 (io), R2 A7 (in), R3 A9 (in), R7 A11 (in), R8 A6 (in), R9 VDD9 (io), T1 VSS4 (io), T2 ~{RESET} (in), T3 A13 (in), T7 A14 (io), T8 A8 (in), T9 VSS12 (io)

## OSC4P_D
designator OSC?, comment 50MHZ  (value not drawn)
PARTS: 1; OriginalSymbolOrigin: (20,100); DEVICE: CEFGCJ32_768; LEVEL: STD
pins: 1 NC/3-ST, 2 GND, 3 OUT, 4 VDD
text: G

## PS2801-1-F3
designator U?  (value not drawn)
PARTS: 1; OriginalSymbolOrigin: (20,90); LEVEL: STD; DEVICE: PS2801-1-F3
pins: 1 P, 2 N, 3 E, 4 C

## PWC3_A
designator J?  (value not drawn)
PARTS: 1; OriginalSymbolOrigin: (10,70); CODE: 14190002; PKG_TYPE: PWC0103-M-C; LEVEL: STD; DEVICE: DC-005-B
pins: 1 A1 (io), 2 A2 (io), 3 A3 (io)

## PWR1-2
designator U?  (value not drawn)
PARTS: 1; OriginalSymbolOrigin: (20,30); LEVEL: STD; DEVICE: RB414II06E; CODE: ?; PKG_TYPE: ?
pins: 1 + (io), 2 - (io)

## R
designator R?, comment 1K  (value not drawn)
PARTS: 1; OriginalSymbolOrigin: (10,20); PINSWAP: (A,B); DEVICE: R; PKG_TYPE: 2; LEVEL: STD
pins: 1 A, 2 B

## R_1
designator R?, comment 1K
PARTS: 1; OriginalSymbolOrigin: (10,20); PINSWAP: (A,B); DEVICE: R; PKG_TYPE: 2; LEVEL: STD
pins: 1 A, 2 B

## R_AGN200
designator K?  (value not drawn)
OriginalSymbolOrigin: (20,120); PKG_TYPE: RELAY-200A; CODE: 11010071; LEVEL: STD; DEVICE: AGN200A4HZ
pins: 1 (io), 2 (io), 3 (io), 4 (io), 5 (io), 6 (io), 7 (io), 8 (io)

## RCA2_A
designator J?  (value not drawn)
PARTS: 1; OriginalSymbolOrigin: (10,50); CODE: 14160122; PKG_TYPE: 2; LEVEL: STD; DEVICE: SCP624UNS4
pins: 1 P1, 2 P2

## RND8-4
designator RN?, comment 4X1K  (value not drawn)
PARTS: 1; OriginalSymbolOrigin: (0,60); PKG_TYPE: 8; LEVEL: STD; DEVICE: YC164JR_071K
pins: 1, 2, 3, 4, 5, 6, 7, 8

## RTL8211D
designator U?  (value not drawn)
PARTS: 1; OriginalSymbolOrigin: (20,350); LEVEL: STD; DEVICE: RTL8211D
pins: 1 MDIP0, 2 MDIN0, 3 AVDD10_1, 4 MDIP1, 5 MDIN1, 6 AVDD33_1, 7 MDIP2, 8 MDIN2, 9 AVDD10_2, 10 MDIP3, 11 MDIN3, 12 NC, 13 RXCTL/PHY_AD2, 14 RXD0/SELRGV, 15 DVDD33_1, 16 RXD1/TXDLY, 17 RXD2/AN0, 18 RXD3/AN1, 19 RXC, 20 INT, 21 DVDD33_2, 22 TXCLK, 23 TXD0, 24 TXD1, 25 TXD2, 26 TXD3, 27 TXCTL, 28 DVDD10_1, 29 PHYRSTB, 30 MDC, 31 MDIO, 32 LED2/RXDLY, 33 PME, 34 LED0/PHY_AD0, 35 LED1/PHY_AD1, 36 DVDD10_2, 37 DVDD33_3, 38 ENSWREG, 39 RSET, 40 AVDD10_3, 41 AVDD33_2, 42 CKXTAL1, 43 CKXTAL2, 44 VDDREG1, 45 VDDREG2, 46 CLK125, 47 GND1, 48 REG_OUT, 49 GND2

## SED60
designator J?  (value not drawn)
PARTS: 1; OriginalSymbolOrigin: (20,360); CODE: 88692; PKG_TYPE: 60; LEVEL: STD; DEVICE: 55622-60
pins: 1 P1 (io), 2 P2 (io), 3 P3 (io), 4 P4 (io), 5 P5 (io), 6 P6 (io), 7 P7 (io), 8 P8 (io), 9 P9 (io), 10 P10 (io), 11 P11 (io), 12 P12 (io), 13 P13 (io), 14 P14 (io), 15 P15 (io), 16 P16 (io), 17 P17 (io), 18 P18 (io), 19 P19 (io), 20 P20 (io), 21 P21 (io), 22 P22 (io), 23 P23 (io), 24 P24 (io), 25 P25 (io), 26 P26 (io), 27 P27 (io), 28 P28 (io), 29 P29 (io), 30 P30 (io), 31 P31 (io), 32 P32 (io), 33 P33 (io), 34 P34 (io), 35 P35 (io), 36 P36 (io), 37 P37 (io), 38 P38 (io), 39 P39 (io), 40 P40 (io), 41 P41 (io), 42 P42 (io), 43 P43 (io), 44 P44 (io), 45 P45 (io), 46 P46 (io), 47 P47 (io), 48 P48 (io), 49 P49 (io), 50 P50 (io), 51 P51 (io), 52 P52 (io), 53 P53 (io), 54 P54 (io), 55 P55 (io), 56 P56 (io), 57 P57 (io), 58 P58 (io), 59 P59 (io), 60 P60 (io)

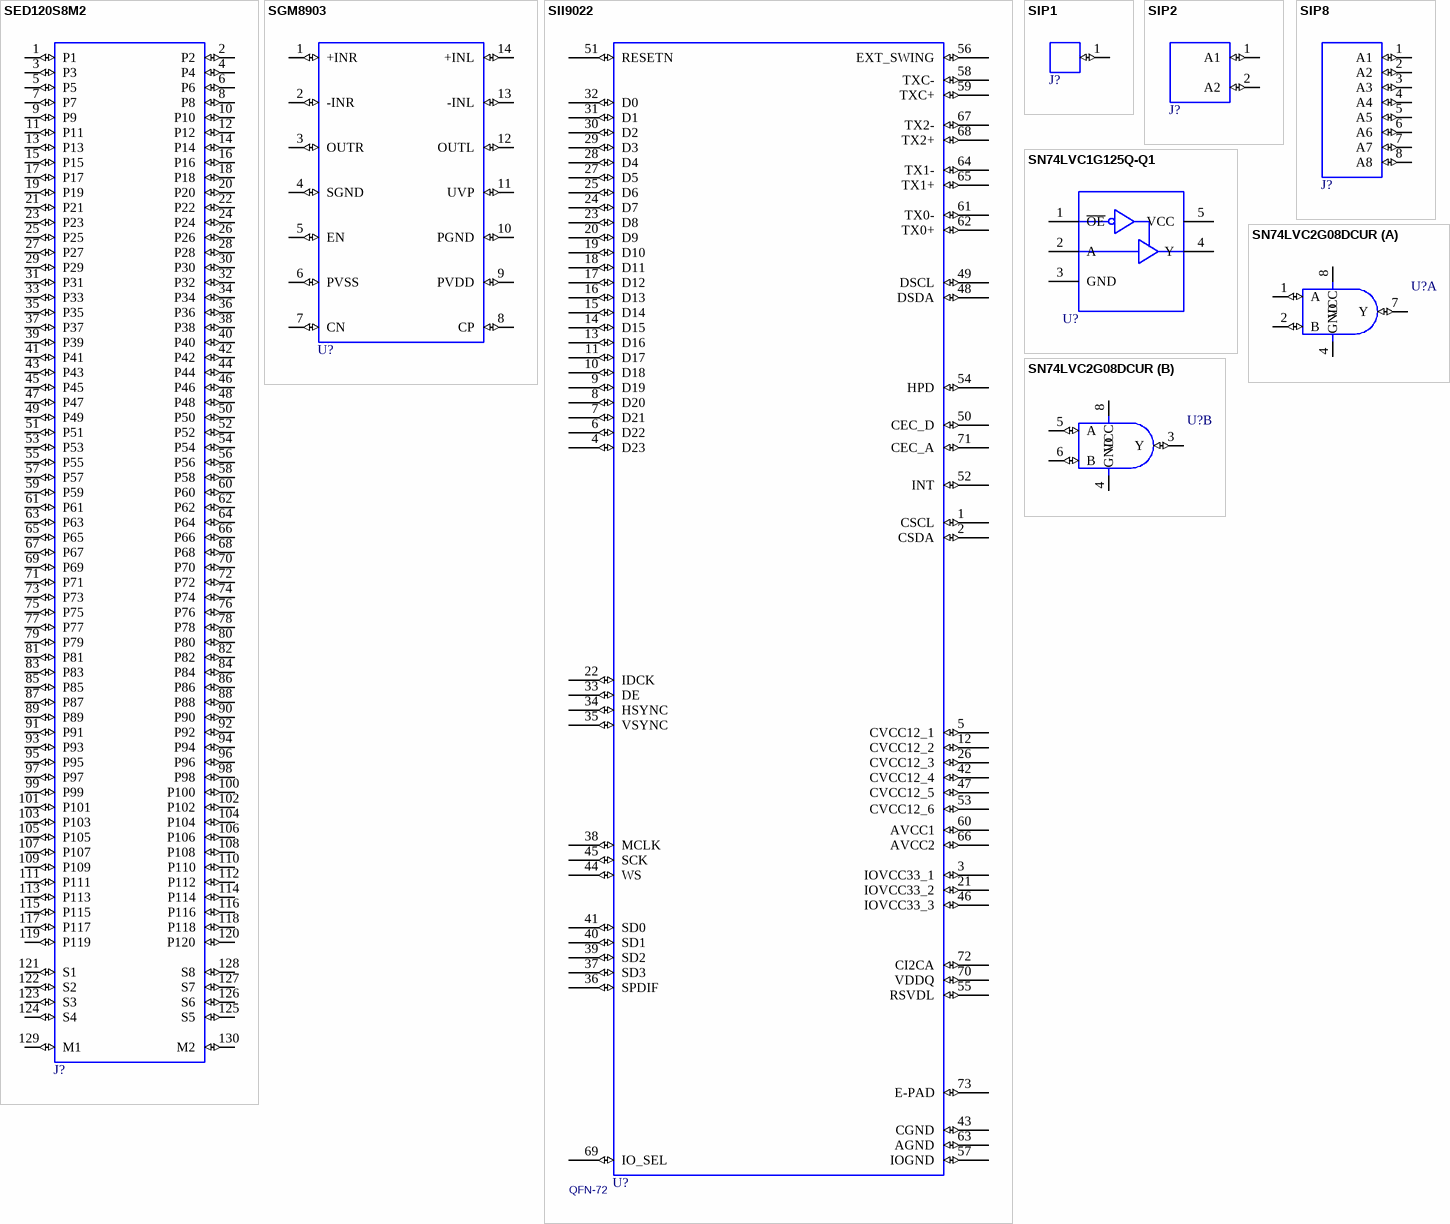
[diagram p5: symbols SED120S8M2 to SN74LVC2G08DCUR]

## SED120S8M2
designator J?  (value not drawn)
PARTS: 1; OriginalSymbolOrigin: (20,690); CODE: 140985; PKG_TYPE: 130; LEVEL: STD; DEVICE: QSH-060-01-F-D-A-K
pins: 1 P1 (io), 2 P2 (io), 3 P3 (io), 4 P4 (io), 5 P5 (io), 6 P6 (io), 7 P7 (io), 8 P8 (io), 9 P9 (io), 10 P10 (io), 11 P11 (io), 12 P12 (io), 13 P13 (io), 14 P14 (io), 15 P15 (io), 16 P16 (io), 17 P17 (io), 18 P18 (io), 19 P19 (io), 20 P20 (io), 21 P21 (io), 22 P22 (io), 23 P23 (io), 24 P24 (io), 25 P25 (io), 26 P26 (io), 27 P27 (io), 28 P28 (io), 29 P29 (io), 30 P30 (io), 31 P31 (io), 32 P32 (io), 33 P33 (io), 34 P34 (io), 35 P35 (io), 36 P36 (io), 37 P37 (io), 38 P38 (io), 39 P39 (io), 40 P40 (io), 41 P41 (io), 42 P42 (io), 43 P43 (io), 44 P44 (io), 45 P45 (io), 46 P46 (io), 47 P47 (io), 48 P48 (io), 49 P49 (io), 50 P50 (io), 51 P51 (io), 52 P52 (io), 53 P53 (io), 54 P54 (io), 55 P55 (io), 56 P56 (io), 57 P57 (io), 58 P58 (io), 59 P59 (io), 60 P60 (io), 61 P61 (io), 62 P62 (io), 63 P63 (io), 64 P64 (io), 65 P65 (io), 66 P66 (io), 67 P67 (io), 68 P68 (io), 69 P69 (io), 70 P70 (io), 71 P71 (io), 72 P72 (io), 73 P73 (io), 74 P74 (io), 75 P75 (io), 76 P76 (io), 77 P77 (io), 78 P78 (io), 79 P79 (io), 80 P80 (io), 81 P81 (io), 82 P82 (io), 83 P83 (io), 84 P84 (io), 85 P85 (io), 86 P86 (io), 87 P87 (io), 88 P88 (io), 89 P89 (io), 90 P90 (io), 91 P91 (io), 92 P92 (io), 93 P93 (io), 94 P94 (io), 95 P95 (io), 96 P96 (io), 97 P97 (io), 98 P98 (io), 99 P99 (io), 100 P100 (io), 101 P101 (io), 102 P102 (io), 103 P103 (io), 104 P104 (io), 105 P105 (io), 106 P106 (io), 107 P107 (io), 108 P108 (io), 109 P109 (io), 110 P110 (io), 111 P111 (io), 112 P112 (io), 113 P113 (io), 114 P114 (io), 115 P115 (io), 116 P116 (io), 117 P117 (io), 118 P118 (io), 119 P119 (io), 120 P120 (io), 121 S1 (io), 122 S2 (io), 123 S3 (io), 124 S4 (io), 125 S5 (io), 126 S6 (io), 127 S7 (io), 128 S8 (io), 129 M1 (io), 130 M2 (io)

## SGM8903
designator U?  (value not drawn)
PARTS: 1; OriginalSymbolOrigin: (20,220); LEVEL: STD; PKG_TYPE: SGM8903; HETERO: SGM8903; DEVICE: SGM8903
pins: 1 +INR (io), 2 -INR (io), 3 OUTR (io), 4 SGND (io), 5 EN (io), 6 PVSS (io), 7 CN (io), 8 CP (io), 9 PVDD (io), 10 PGND (io), 11 UVP (io), 12 OUTL (io), 13 -INL (io), 14 +INL (io)

## SII9022
designator U?  PKG_TYPE: QFN-72  (hidden comment: SII9022)
PARTS: 1; OriginalSymbolOrigin: (30,775); LEVEL: STD; DEVICE: SIL9024A
pins: 1 CSCL (io), 2 CSDA (io), 3 IOVCC33_1 (io), 4 D23 (io), 5 CVCC12_1 (io), 6 D22 (io), 7 D21 (io), 8 D20 (io), 9 D19 (io), 10 D18 (io), 11 D17 (io), 12 CVCC12_2 (io), 13 D16 (io), 14 D15 (io), 15 D14 (io), 16 D13 (io), 17 D12 (io), 18 D11 (io), 19 D10 (io), 20 D9 (io), 21 IOVCC33_2 (io), 22 IDCK (io), 23 D8 (io), 24 D7 (io), 25 D6 (io), 26 CVCC12_3 (io), 27 D5 (io), 28 D4 (io), 29 D3 (io), 30 D2 (io), 31 D1 (io), 32 D0 (io), 33 DE (io), 34 HSYNC (io), 35 VSYNC (io), 36 SPDIF (io), 37 SD3 (io), 38 MCLK (io), 39 SD2 (io), 40 SD1 (io), 41 SD0 (io), 42 CVCC12_4 (io), 43 CGND (io), 44 WS (io), 45 SCK (io), 46 IOVCC33_3 (io), 47 CVCC12_5 (io), 48 DSDA (io), 49 DSCL (io), 50 CEC_D (io), 51 RESETN (io), 52 INT (io), 53 CVCC12_6 (io), 54 HPD (io), 55 RSVDL (io), 56 EXT_SWING (io), 57 IOGND (io), 58 TXC- (io), 59 TXC+ (io), 60 AVCC1 (io), 61 TX0- (io), 62 TX0+ (io), 63 AGND (io), 64 TX1- (io), 65 TX1+ (io), 66 AVCC2 (io), 67 TX2- (io), 68 TX2+ (io), 69 IO_SEL (io), 70 VDDQ (io), 71 CEC_A (io), 72 CI2CA (io), 73 E-PAD (io)

## SIP1
designator J?  (value not drawn)
PARTS: 1; OriginalSymbolOrigin: (10,30); CODE: 14050248; LEVEL: STD; DEVICE: 013-0018-192; PKG_TYPE: ?
pins: 1 (io)

## SIP2
designator J?  (value not drawn)
PARTS: 1; OriginalSymbolOrigin: (0,40); PKG_TYPE: SIP-2P-156; LEVEL: STD; CODE: 14100023; DEVICE: SIP2
pins: 1 A1 (io), 2 A2 (io)

## SIP8
designator J?  (value not drawn)
PARTS: 1; OriginalSymbolOrigin: (0,90); PKG_TYPE: 4; LEVEL: STD; DEVICE: HEAD1X4
pins: 1 A1 (io), 2 A2 (io), 3 A3 (io), 4 A4 (io), 5 A5 (io), 6 A6 (io), 7 A7 (io), 8 A8 (io)

## SN74LVC1G125Q-Q1
designator U?  (value not drawn)
PARTS: 1; OriginalSymbolOrigin: (10,90); CODE: 94854; PKG_TYPE: 5; LEVEL: STD; DEVICE: SN74LVC1G125Q-Q1
pins: 1 ~{OE}, 2 A, 3 GND, 4 Y, 5 VCC

## SN74LVC2G08DCUR
designator U?  (value not drawn)
PARTS: 2; OriginalSymbolOrigin: (20,50); CODE: 165948; PKG_TYPE: 8; LEVEL: STD; DEVICE: SN74LVC2G08DCUR
part A pins: 1 A (io), 2 B (io), 4 GND (io), 7 Y (io), 8 VCC (io)
part B pins: 3 Y (io), 4 GND (io), 5 A (io), 6 B (io), 8 VCC (io)

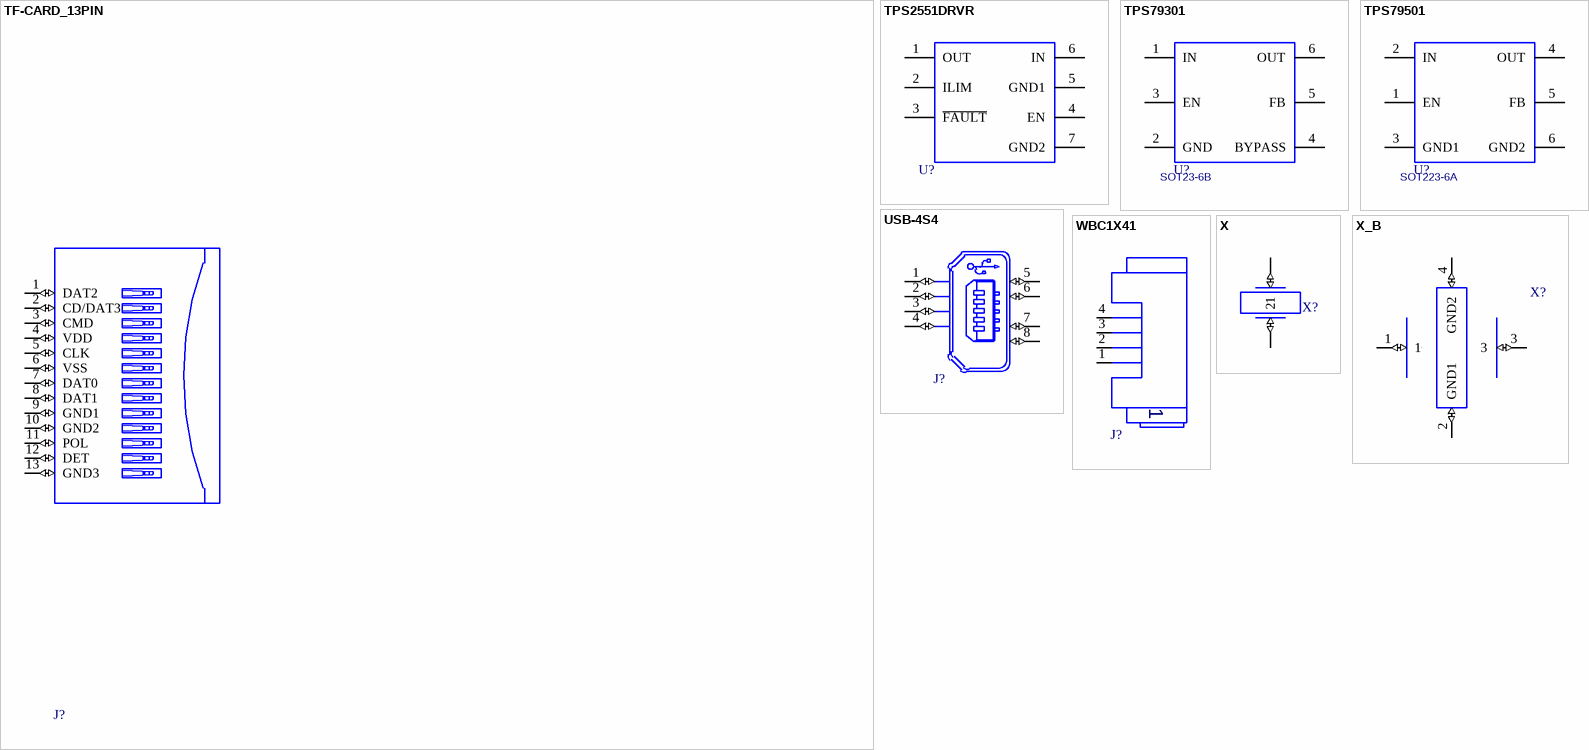
[diagram p6: symbols TF-CARD_13PIN to X_B]

## TF-CARD_13PIN
designator J?  (value not drawn)
PARTS: 1; OriginalSymbolOrigin: (20,180); LEVEL: STD; DEVICE: SD-47309-001
pins: 1 DAT2 (io), 2 CD/DAT3 (io), 3 CMD (io), 4 VDD (io), 5 CLK (io), 6 VSS (io), 7 DAT0 (io), 8 DAT1 (io), 9 GND1 (io), 10 GND2 (io), 11 POL (io), 12 DET (io), 13 GND3 (io)

## TPS2551DRVR
designator U?  (value not drawn)
PARTS: 1; OriginalSymbolOrigin: (10,90); LEVEL: STD; DEVICE: TPS2551DRVR
pins: 1 OUT, 2 ILIM, 3 ~{FAULT}, 4 EN, 5 GND1, 6 IN, 7 GND2

## TPS79301
designator U?  PKG_TYPE: SOT23-6B  (hidden comment: TPS79301)
PARTS: 1; OriginalSymbolOrigin: (10,90); LEVEL: STD; DEVICE: TPS79301
pins: 1 IN, 2 GND, 3 EN, 4 BYPASS, 5 FB, 6 OUT

## TPS79501
designator U?  PKG_TYPE: SOT223-6A  (hidden comment: TPS79501)
PARTS: 1; OriginalSymbolOrigin: (10,90); LEVEL: STD; DEVICE: TPS79501
pins: 1 EN, 2 IN, 3 GND1, 4 OUT, 5 FB, 6 GND2

## USB-4S4
designator J?  (value not drawn)
PARTS: 1; OriginalSymbolOrigin: (20,90); CODE: 121755; PKG_TYPE: 8; LEVEL: STD; DEVICE: UB3112C-K1
pins: 1 (io), 2 (io), 3 (io), 4 (io), 5 S1 (io), 6 S2 (io), 7 S3 (io), 8 S4 (io)

## WBC1X41
designator J?  (value not drawn)
PARTS: 1; OriginalSymbolOrigin: (10,130); CODE: 14100186; PKG_TYPE: SHEAD-4P-49; LEVEL: STD; DEVICE: WBC1X4
pins: 1 (io), 2 (io), 3 (io), 4 (io)

## X
designator X?  (value not drawn)
PARTS: 1; OriginalSymbolOrigin: (10,40); LEVEL: STD; PKG_TYPE: XTAL2-192; DEVICE: XIHEEC1728; CODE: 12020119
pins: 1 (io), 2 (io)

## X_B
designator X?  (value not drawn)
PARTS: 1; OriginalSymbolOrigin: (20,80); LEVEL: STD; PKG_TYPE: 4; DEVICE: X_B; CODE: ?
pins: 1 (io), 2 GND1 (io), 3 (io), 4 GND2 (io)